# Altium footprint library Foxslf 8MHz Crystal.PcbLib: 1 footprints
Each footprint in its own frame and in the unit in brackets; x right, y up, seen from the top. Pads: shape width x height; smd on the part's side, far side on the other; paste and mask are expansions set on the pad; w line width, h text height; cw(c..) or ccw(c..) is an arc to the next point about the centre after c.
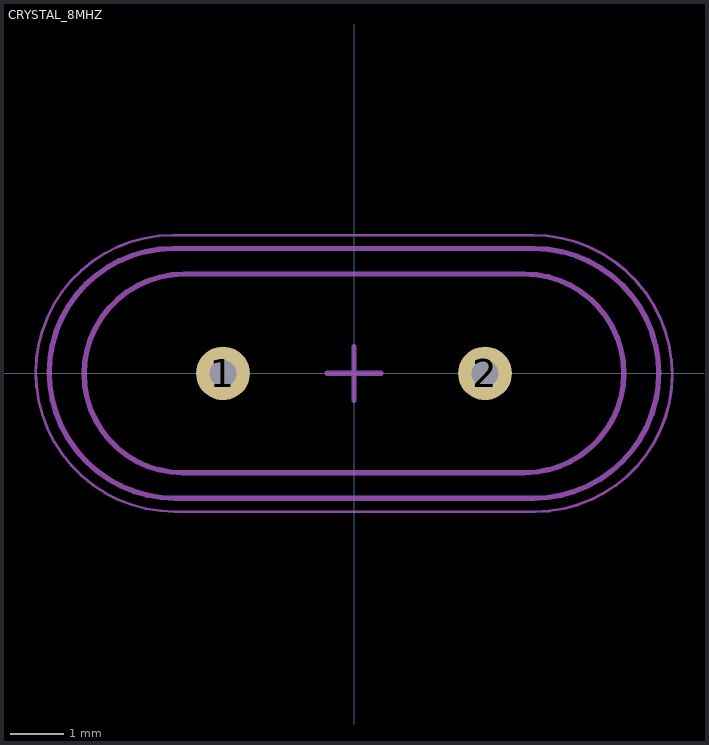
[diagram p0: the footprint, top view; thin cyan lines are the x and y axes]

## CRYSTAL_8MHZ [mm] "631-1100-ND"
pads (2):
  round 1 hole 0.5: 1(-2.44,0) 2(2.44,0)
Mechanical 6:
  text "'.Designator'" at -2,-0.275 h0.6
Mechanical 8:
  lines w0.05: -5.925,0.014 cw(c-3.364,0.014) -3.364,2.575 3.322,2.575 cw(c3.322,-0.028) 5.925,-0.028 cw(c3.378,-0.028) 3.378,-2.575 -3.336,-2.575 cw(c-3.336,0.014) -5.925,0.014
Mechanical 13:
  lines w0.1: -5.675,0.021 cw(c-3.371,0.021) -3.371,2.325 3.353,2.325 cw(c3.353,0.003) 5.675,0.003 cw(c3.347,0.003) 3.347,-2.325 -3.329,-2.325 cw(c-3.329,0.021) -5.675,0.021 ; -5.025,-0.015 cw(c-3.16,-0.015) -3.16,1.85 3.175,1.85 cw(c3.175,0) 5.025,0 cw(c3.175,0) 3.175,-1.85 -3.19,-1.85 cw(c-3.19,-0.015) -5.025,-0.015
Mechanical 15:
  lines w0.05: -5.925,0.017 ccw(c-3.333,0.017) -3.333,-2.575 3.367,-2.575 ccw(c3.367,-0.017) 5.925,-0.017 ccw(c3.333,-0.017) 3.333,2.575 -3.367,2.575 ccw(c-3.367,0.017) -5.925,0.017
  lines w0.1: -0.5,0 0.5,0 ; 0,-0.5 0,0.5
3D body "xtal.STEP": height 3.55, standoff -5.45, extent -5.75,-2.5 5.75,2.5